# Altium schematic symbol library TPS61070.SchLib: 1 symbol
Pins are listed as number, name and electrical type; pins without a type are passive.

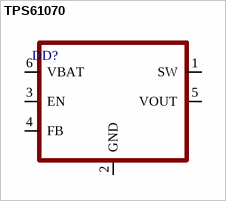
[diagram p0: symbol TPS61070]

## TPS61070
designator DD?
pins: 1 SW, 2 GND, 3 EN, 4 FB, 5 VOUT, 6 VBAT